# Altium footprint library adafruit.PCBLIB: 643 footprints (part 11 of 41)
Each footprint in its own frame and in the unit in brackets; x right, y up, seen from the top. Pads: shape width x height; smd on the part's side, far side on the other; paste and mask are expansions set on the pad; w line width, h text height; cw(c..) or ccw(c..) is an arc to the next point about the centre after c.
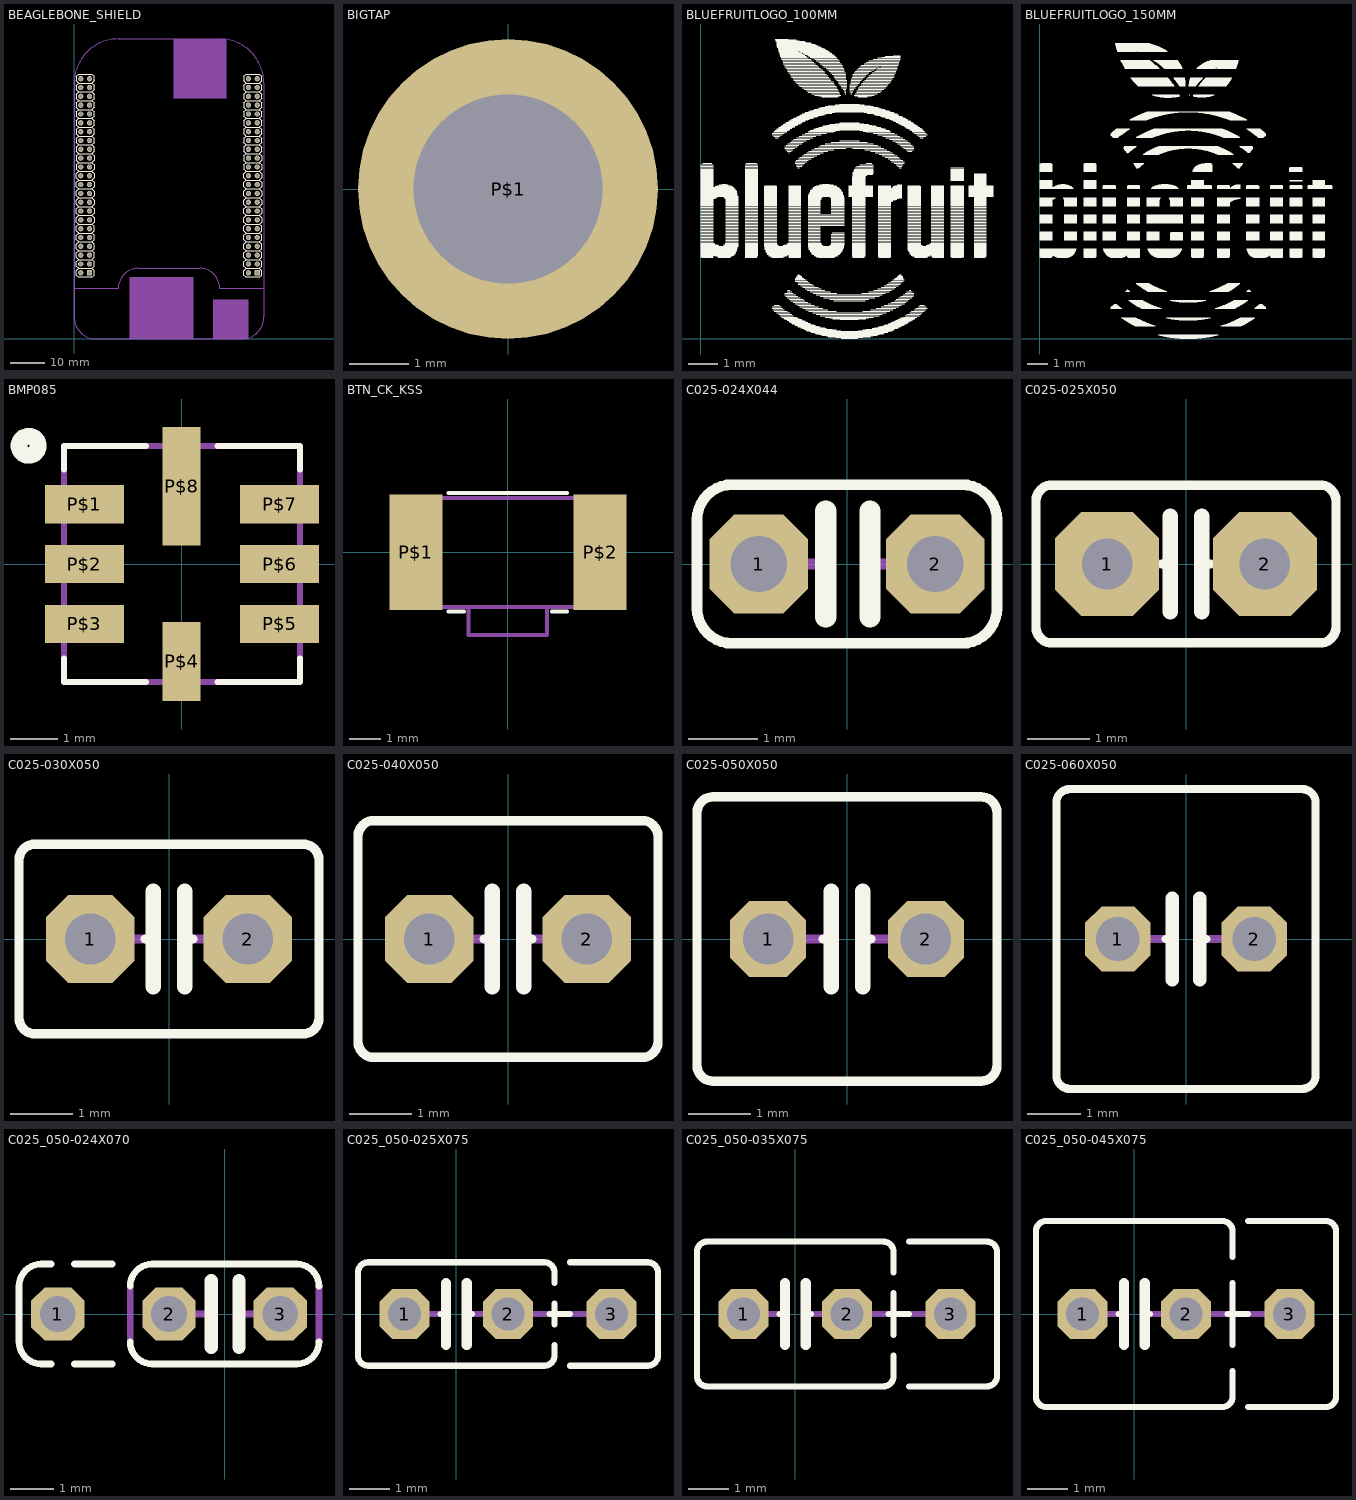
[diagram p10: the footprints below, top view; thin cyan lines are the x and y axes]

## BEAGLEBONE_SHIELD [mil]
pads (92):
  rect 60x60 hole 40: 1(175,750) 47(2075,750)
  round 60 hole 40: 2(75,750) 3(175,850) 4(75,850) 5(175,950) 6(75,950) 7(175,1050) 8(75,1050) 9(175,1150) 10(75,1150) 11(175,1250) 12(75,1250) 13(175,1350) 14(75,1350) 15(175,1450) 16(75,1450) 17(175,1550) 18(75,1550) 19(175,1650) 20(75,1650) 21(175,1750) 22(75,1750) 23(175,1850) 24(75,1850) 25(175,1950) 26(75,1950) 27(175,2050) 28(75,2050) 29(175,2150) 30(75,2150) 31(175,2250) 32(75,2250) 33(175,2350) 34(75,2350) 35(175,2450) 36(75,2450) 37(175,2550) 38(75,2550) 39(175,2650) 40(75,2650) 41(175,2750) 42(75,2750) 43(175,2850) 44(75,2850) 45(175,2950) 46(75,2950) 48(1975,750) 49(2075,850) 50(1975,850) 51(2075,950) 52(1975,950) 53(2075,1050) 54(1975,1050) 55(2075,1150) 56(1975,1150) 57(2075,1250) 58(1975,1250) 59(2075,1350) 60(1975,1350) 61(2075,1450) 62(1975,1450) 63(2075,1550) 64(1975,1550) 65(2075,1650) 66(1975,1650) 67(2075,1750) 68(1975,1750) 69(2075,1850) 70(1975,1850) 71(2075,1950) 72(1975,1950) 73(2075,2050) 74(1975,2050) 75(2075,2150) 76(1975,2150) 77(2075,2250) 78(1975,2250) 79(2075,2350) 80(1975,2350) 81(2075,2450) 82(1975,2450) 83(2075,2550) 84(1975,2550) 85(2075,2650) 86(1975,2650) 87(2075,2750) 88(1975,2750) 89(2075,2850) 90(1975,2850) 91(2075,2950) 92(1975,2950)
Top Overlay:
  drawing of 324 lines, arcs and shapes, not listed
Outline:
  lines w5: 0,575 0,2900 cw(c500,2900) 500,3400 1650,3400 cw(c1650,2900) 2150,2900 2150,575 1650,575 ccw(c1425,575) 1425,800 725,800 ccw(c725,575) 500,575 0,575
Courtyard Bottom:
  region: 185,740 185,760 165,760 165,740
  region: 85,740 85,760 65,760 65,740
  region: 85,840 85,860 65,860 65,840
  region: 185,840 185,860 165,860 165,840
  region: 85,940 85,960 65,960 65,940
  region: 185,940 185,960 165,960 165,940
  region: 85,1040 85,1060 65,1060 65,1040
  region: 85,1140 85,1160 65,1160 65,1140
  region: 85,1240 85,1260 65,1260 65,1240
  region: 185,1040 185,1060 165,1060 165,1040
  region: 185,1140 185,1160 165,1160 165,1140
  region: 185,1240 185,1260 165,1260 165,1240
  region: 85,1340 85,1360 65,1360 65,1340
  region: 185,1340 185,1360 165,1360 165,1340
  region: 85,1440 85,1460 65,1460 65,1440
  region: 185,1440 185,1460 165,1460 165,1440
  region: 85,1540 85,1560 65,1560 65,1540
  region: 185,1540 185,1560 165,1560 165,1540
  region: 85,1640 85,1660 65,1660 65,1640
  region: 185,1640 185,1660 165,1660 165,1640
  region: 85,1740 85,1760 65,1760 65,1740
  region: 185,1740 185,1760 165,1760 165,1740
  region: 85,1840 85,1860 65,1860 65,1840
  region: 185,1840 185,1860 165,1860 165,1840
  region: 85,1940 85,1960 65,1960 65,1940
  region: 185,1940 185,1960 165,1960 165,1940
  region: 85,2040 85,2060 65,2060 65,2040
  region: 185,2040 185,2060 165,2060 165,2040
  region: 85,2140 85,2160 65,2160 65,2140
  region: 185,2140 185,2160 165,2160 165,2140
  region: 85,2240 85,2260 65,2260 65,2240
  region: 185,2240 185,2260 165,2260 165,2240
  region: 85,2340 85,2360 65,2360 65,2340
  region: 185,2340 185,2360 165,2360 165,2340
  region: 85,2440 85,2460 65,2460 65,2440
  region: 185,2440 185,2460 165,2460 165,2440
  region: 85,2540 85,2560 65,2560 65,2540
  region: 185,2540 185,2560 165,2560 165,2540
  region: 85,2640 85,2660 65,2660 65,2640
  region: 185,2640 185,2660 165,2660 165,2640
  region: 85,2740 85,2760 65,2760 65,2740
  region: 185,2740 185,2760 165,2760 165,2740
  region: 85,2840 85,2860 65,2860 65,2840
  region: 185,2840 185,2860 165,2860 165,2840
  region: 85,2940 85,2960 65,2960 65,2940
  region: 185,2940 185,2960 165,2960 165,2940
  region: 2085,740 2085,760 2065,760 2065,740
  region: 1985,740 1985,760 1965,760 1965,740
  region: 1985,840 1985,860 1965,860 1965,840
  region: 2085,840 2085,860 2065,860 2065,840
  region: 1985,940 1985,960 1965,960 1965,940
  region: 2085,940 2085,960 2065,960 2065,940
  region: 1985,1040 1985,1060 1965,1060 1965,1040
  region: 1985,1140 1985,1160 1965,1160 1965,1140
  region: 1985,1240 1985,1260 1965,1260 1965,1240
  region: 2085,1040 2085,1060 2065,1060 2065,1040
  region: 2085,1140 2085,1160 2065,1160 2065,1140
  region: 2085,1240 2085,1260 2065,1260 2065,1240
  region: 1985,1340 1985,1360 1965,1360 1965,1340
  region: 2085,1340 2085,1360 2065,1360 2065,1340
  region: 1985,1440 1985,1460 1965,1460 1965,1440
  region: 2085,1440 2085,1460 2065,1460 2065,1440
  region: 1985,1540 1985,1560 1965,1560 1965,1540
  region: 2085,1540 2085,1560 2065,1560 2065,1540
  region: 1985,1640 1985,1660 1965,1660 1965,1640
  region: 2085,1640 2085,1660 2065,1660 2065,1640
  region: 1985,1740 1985,1760 1965,1760 1965,1740
  region: 2085,1740 2085,1760 2065,1760 2065,1740
  region: 1985,1840 1985,1860 1965,1860 1965,1840
  region: 2085,1840 2085,1860 2065,1860 2065,1840
  region: 1985,1940 1985,1960 1965,1960 1965,1940
  region: 2085,1940 2085,1960 2065,1960 2065,1940
  region: 1985,2040 1985,2060 1965,2060 1965,2040
  region: 2085,2040 2085,2060 2065,2060 2065,2040
  region: 1985,2140 1985,2160 1965,2160 1965,2140
  region: 2085,2140 2085,2160 2065,2160 2065,2140
  region: 1985,2240 1985,2260 1965,2260 1965,2240
  region: 2085,2240 2085,2260 2065,2260 2065,2240
  region: 1985,2340 1985,2360 1965,2360 1965,2340
  region: 2085,2340 2085,2360 2065,2360 2065,2340
  region: 1985,2440 1985,2460 1965,2460 1965,2440
  region: 2085,2440 2085,2460 2065,2460 2065,2440
  region: 1985,2540 1985,2560 1965,2560 1965,2540
  region: 2085,2540 2085,2560 2065,2560 2065,2540
  region: 1985,2640 1985,2660 1965,2660 1965,2640
  region: 2085,2640 2085,2660 2065,2660 2065,2640
  region: 1985,2740 1985,2760 1965,2760 1965,2740
  region: 2085,2740 2085,2760 2065,2760 2065,2740
  region: 1985,2840 1985,2860 1965,2860 1965,2840
  region: 2085,2840 2085,2860 2065,2860 2065,2840
  region: 1985,2940 1985,2960 1965,2960 1965,2940
  region: 2085,2940 2085,2960 2065,2960 2065,2940
  lines w5: 0,575 0,250 ccw(c250,250) 250,0 1900,0 ccw(c1900,250) 2150,250 2150,575
  text "P8" at 100,3050 h77.5
  text "P9" at 2000,3050 h77.5
Mech37:
  rectangle: 1125,2725 1725,3400
  rectangle: 1575,0 1975,450
  rectangle: 625,0 1350,700

## BIGTAP [mil]
pads (1):
  round 200 hole 126: P$1(0,0)
Top Layer:
  region: 0,0 10,0 10,10 0,10
Bottom Layer:
  region: 0,0 10,0 10,10 0,10
Top Solder:
  region: 0,0 10,0 10,10 0,10
Bottom Solder:
  region: 0,0 10,0 10,10 0,10

## BLUEFRUITLOGO_100MM [mil]
Top Overlay:
  drawing of 2838 lines, arcs and shapes, not listed

## BLUEFRUITLOGO_150MM [mil]
Top Overlay:
  drawing of 2838 lines, arcs and shapes, not listed

## BMP085 [mil]
pads (8):
  rect 66x32 smd: P$1(-81.3,50) P$2(-81.3,0) P$3(-81.3,-50) P$5(82,-50) P$6(82,0) P$7(82,50)
  rect 32x66 smd: P$4(0,-81.3)
  rect 32x99 smd: P$8(0,65)
Top Overlay:
  circle w14: c-127.95,99 r8
  lines w5: -98.43,-78.74 -98.43,-98.43 -29.53,-98.43 ; -98.43,79 -98.43,99 -29.53,99 ; 30,-98.43 99,-98.43 99,-78.74 ; 30,99 99,99 99,79
Courtyard Bottom:
  lines w5: -98.43,-98.43 99,-98.43 99,99 -98.43,99 -98.43,-98.43

## BTN_CK_KSS [mil]
pads (2):
  rect 67x146 smd: P$1(-116.14,0) P$2(117,0)
Top Overlay:
  lines w5: -74.8,-74.8 -55.12,-74.8 ; -74.8,75 75,75 ; 56,-74.8 75,-74.8
Courtyard Bottom:
  lines w5: -108.27,-59.25 -108.27,-68.9 -49.21,-68.9 ; -108.27,-59.25 -108.27,60 ; -108.27,-59.25 -137.8,-59.25 -137.8,60 -108.27,60 ; -108.27,60 -108.27,69 109,69 109,60 ; -49.21,-68.9 50,-68.9 ; -49.21,-68.9 -49.21,-104.33 50,-104.33 50,-68.9 ; 50,-68.9 109,-68.9 109,-59.25 ; 109,-59.25 109,60 ; 109,-59.25 138,-59.25 138,60 109,60

## C025-024X044 [mil]
pads (2):
  oct 56x56 hole 32: 1(-50,0) 2(50,0)
Top Overlay:
  lines w6: -85,-25 -85,25 cw(c-65,25) -65,45 65,45 cw(c65,25) 85,25 85,-25 cw(c65,-25) 65,-45 -65,-45 cw(c-65,-25) -85,-25
  lines w12: -12,-30 -12,30 ; 13,-30 13,30
Courtyard Bottom:
  lines w6: -50,0 -12,0 ; 13,0 50,0

## C025-025X050 [mil]
pads (2):
  oct 66x66 hole 32: 1(-50,0) 2(50,0)
Top Overlay:
  lines w6: -15,0 -10,0 ; 10,0 15,0 ; -95,-40 -95,40 cw(c-85,40) -85,50 85,50 cw(c85,40) 95,40 95,-40 cw(c85,-40) 85,-50 -85,-50 cw(c-85,-40) -95,-40
  lines w10: -10,-30 -10,0 -10,30 ; 10,-30 10,0 10,30
Courtyard Bottom:
  lines w6: -30,0 -15,0 ; 15,0 30,0

## C025-030X050 [mil]
pads (2):
  oct 56x56 hole 32: 1(-50,0) 2(50,0)
Top Overlay:
  lines w6: -15,0 -10,0 ; 10,0 15,0 ; -95,-50 -95,50 cw(c-85,50) -85,60 85,60 cw(c85,50) 95,50 95,-50 cw(c85,-50) 85,-60 -85,-60 cw(c-85,-50) -95,-50
  lines w10: -10,-30 -10,0 -10,30 ; 10,-30 10,0 10,30
Courtyard Bottom:
  lines w6: -30,0 -15,0 ; 15,0 30,0

## C025-040X050 [mil]
pads (2):
  oct 56x56 hole 32: 1(-50,0) 2(50,0)
Top Overlay:
  lines w6: -15,0 -10,0 ; 10,0 15,0 ; -95,-65 -95,65 cw(c-85,65) -85,75 85,75 cw(c85,65) 95,65 95,-65 cw(c85,-65) 85,-75 -85,-75 cw(c-85,-65) -95,-65
  lines w10: -10,-30 -10,0 -10,30 ; 10,-30 10,0 10,30
Courtyard Bottom:
  lines w6: -30,0 -15,0 ; 15,0 30,0

## C025-050X050 [mil]
pads (2):
  oct 48x48 hole 32: 1(-50,0) 2(50,0)
Top Overlay:
  lines w6: -15,0 -10,0 ; 10,0 15,0 ; -95,-80 -95,80 cw(c-85,80) -85,90 85,90 cw(c85,80) 95,80 95,-80 cw(c85,-80) 85,-90 -85,-90 cw(c-85,-80) -95,-80
  lines w10: -10,-30 -10,0 -10,30 ; 10,-30 10,0 10,30
Courtyard Bottom:
  lines w6: -30,0 -15,0 ; 15,0 30,0

## C025-060X050 [mil]
pads (2):
  oct 48x48 hole 32: 1(-50,0) 2(50,0)
Top Overlay:
  lines w6: -15,0 -10,0 ; 10,0 15,0 ; -95,-100 -95,100 cw(c-85,100) -85,110 85,110 cw(c85,100) 95,100 95,-100 cw(c85,-100) 85,-110 -85,-110 cw(c-85,-100) -95,-100
  lines w10: -10,-30 -10,0 -10,30 ; 10,-30 10,0 10,30
Courtyard Bottom:
  lines w6: -30,0 -15,0 ; 15,0 30,0

## C025_050-024X070 [mil]
pads (3):
  oct 48x48 hole 32: 1(-150,0) 2(-50,0) 3(50,0)
Top Overlay:
  lines w6: -156,-45 -165,-45 cw(c-165,-25) -185,-25 -185,25 cw(c-165,25) -165,45 -156,45 ; -135,-45 -101,-45 ; -135,45 -101,45 ; -85,-25 ccw(c-65,-25) -65,-45 65,-45 ccw(c65,-25) 85,-25 ; -85,25 cw(c-65,25) -65,45 65,45 cw(c65,25) 85,25
  lines w12: -12,-30 -12,30 ; 13,-30 13,30
Courtyard Bottom:
  lines w6: -85,-25 -85,25 ; -50,0 -12,0 ; 13,0 50,0 ; 85,-25 85,25

## C025_050-025X075 [mil]
pads (3):
  oct 48x48 hole 32: 1(-50,0) 2(50,0) 3(150,0)
Top Overlay:
  lines w6: -15,0 -10,0 ; 10,0 15,0 ; 90,0 110,0 ; 95,-30 95,-40 cw(c85,-40) 85,-50 -85,-50 cw(c-85,-40) -95,-40 -95,40 cw(c-85,40) -85,50 85,50 cw(c85,40) 95,40 95,30 ; 95,-10 95,10 ; 110,-50 185,-50 ccw(c185,-40) 195,-40 195,40 ccw(c185,40) 185,50 110,50
  lines w10: -10,-30 -10,0 -10,30 ; 10,-30 10,0 10,30
Courtyard Bottom:
  lines w6: -30,0 -15,0 ; 15,0 30,0 ; 70,0 90,0 ; 110,0 130,0

## C025_050-035X075 [mil]
pads (3):
  oct 48x48 hole 32: 1(-50,0) 2(50,0) 3(150,0)
Top Overlay:
  lines w6: -15,0 -10,0 ; 10,0 15,0 ; 90,0 110,0 ; 95,-40 95,-60 cw(c85,-60) 85,-70 -85,-70 cw(c-85,-60) -95,-60 -95,60 cw(c-85,60) -85,70 85,70 cw(c85,60) 95,60 95,40 ; 95,-20 95,20 ; 110,-70 185,-70 ccw(c185,-60) 195,-60 195,60 ccw(c185,60) 185,70 110,70
  lines w10: -10,-30 -10,0 -10,30 ; 10,-30 10,0 10,30
Courtyard Bottom:
  lines w6: -30,0 -15,0 ; 15,0 30,0 ; 70,0 90,0 ; 110,0 130,0

## C025_050-045X075 [mil]
pads (3):
  oct 48x48 hole 32: 1(-50,0) 2(50,0) 3(150,0)
Top Overlay:
  lines w6: -15,0 -10,0 ; 10,0 15,0 ; 90,0 110,0 ; 95,-55 95,-80 cw(c85,-80) 85,-90 -85,-90 cw(c-85,-80) -95,-80 -95,80 cw(c-85,80) -85,90 85,90 cw(c85,80) 95,80 95,55 ; 95,-30 95,30 ; 110,-90 185,-90 ccw(c185,-80) 195,-80 195,80 ccw(c185,80) 185,90 110,90
  lines w10: -10,-30 -10,0 -10,30 ; 10,-30 10,0 10,30
Courtyard Bottom:
  lines w6: -30,0 -15,0 ; 15,0 30,0 ; 70,0 90,0 ; 110,0 130,0